# EAGLE library part 691411510006 (library WR-TBL Spring Clamp)
WR-TBL Serie 4115 - 5.08 mm Screwless Horizontal Entry KIND PROPERTIES Pitch 5.08 mm MATERIAL PROPERTIES Insulator Material PA66 Insulator Flammability Rating UL94 V-0 Contact Material INOX Steel Contact Type Stamped Wire Guard Material Copper Alloy GENERAL INFORMATION Operating Temperature -30 up to +120 °C Compliance ROHS & Reach ELECTRICAL PROPERTIES IR UL 10 A IR VDE 10 A Working Voltage [UL] 300 V (AC) Working Voltage [VDE] 250 V (AC) Withstanding Voltage [UL] 1600 V (AC) Withstanding Voltage [VDE] 2000 V (AC) Contact Resistance 20 mΩ Mechanical Properties Wire Strip Length 10 Wire Properties Solid Wire Section (AWG) 16 to 30 (AWG) Solid Wire Section (Metric) 1.31 to 0.0509 (mm²) Stranded Wire Section (AWG) 16 to 30 (AWG) Stranded Wire Section (Metric) 1.31 to 0.0509 (mm²) CERTIFICATION UL Approval E150931 VDE Approval 40021396 Packaging Properties Packaging Box Details see: www.we-online.com/en/components/products/TBL_5_08_4115_SCREWLESS_HORIZONTAL_ENTRY_6914115100xx/ Updated by Ella Wu 2019-12-31 2019(C) Würth Elektronik
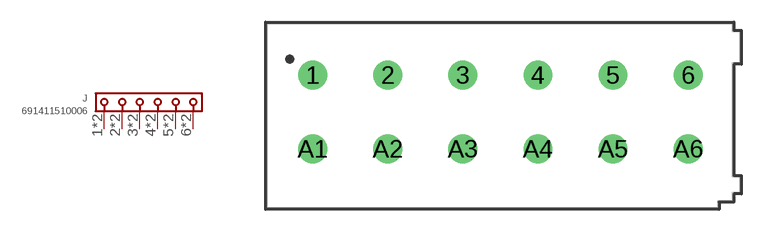
[diagram p19: symbol with the pads of 691411510006; footprint 691411510006]

Designator prefix J

## 691411510006 (APPLICATION: Screwless Push In; DATASHEET: https://www.we-online.com/redexpert/spec/691411510006?ae; IR-UL: 10A; MODULARITY: No; MOUNT: THT; PART-NUMBER: 691411510006; PINS: 6; PITCH: 5.08mm; TYPE: Horizontal Cable Entry; VALUE: 691411510006; WIRE: 16 to 30 (AWG) 0.5 to 1.5 (mm²); WORKING-VOLTAGE-UL: 300V (AC))  [691411510006]
1  1  pas
2  2  pas
3  3  pas
4  4  pas
5  5  pas
6  6  pas
A1  1  pas
A2  2  pas
A3  3  pas
A4  4  pas
A5  5  pas
A6  6  pas

## Footprint 691411510006 (pad centres in mm)
WR-TBL Serie 4115 - 5.08 mm Screwless Horizontal Entry Max Height = 13.9mm , Pitch 5.08mm , 6pins
drill 1.3: 1 -12.7,2.5; 2 -7.62,2.5; 3 -2.54,2.5; 4 2.54,2.5; 5 7.62,2.5; 6 12.7,2.5; A1 -12.7,-2.5; A2 -7.62,-2.5; A3 -2.54,-2.5; A4 2.54,-2.5; A5 7.62,-2.5; A6 12.7,-2.5